# Altium footprint library SOT23-6.PcbLib: 1 footprints
Each footprint in its own frame and in the unit in brackets; x right, y up, seen from the top. Pads: shape width x height; smd on the part's side, far side on the other; paste and mask are expansions set on the pad; w line width, h text height; cw(c..) or ccw(c..) is an arc to the next point about the centre after c.
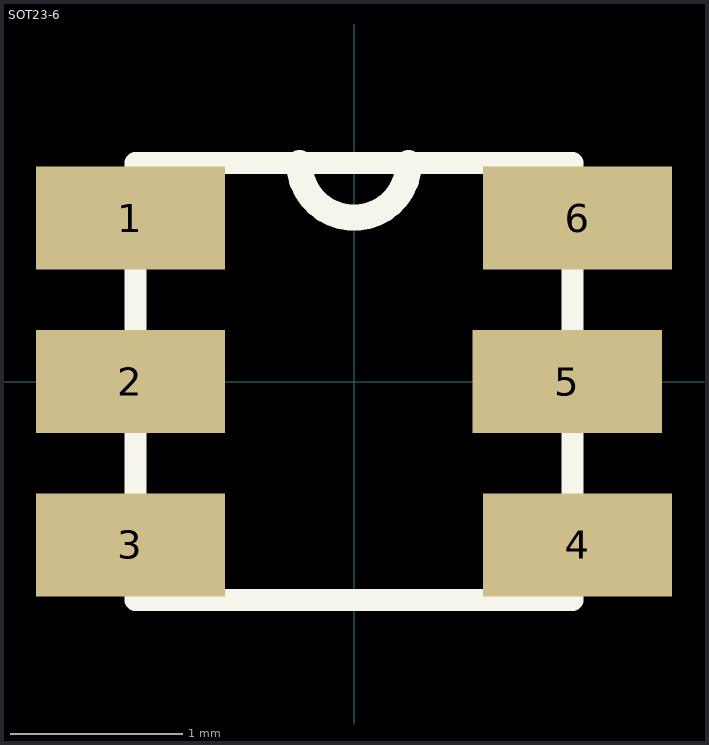
[diagram p0: the footprint, top view; thin cyan lines are the x and y axes]

## SOT23-6 [mm]
pads (6):
  rect 1.1x0.6 smd: 1(-1.3,0.95) 2(-1.3,0) 3(-1.3,-0.95) 4(1.3,-0.95) 5(1.24,0) 6(1.3,0.95)
Top Overlay:
  lines w0.127: -1.27,-1.27 1.27,-1.27 1.27,1.27 0.318,1.27 -0.318,1.27 -1.27,1.27 -1.27,-1.27
  lines w0.152: -0.318,1.27 ccw(c0,1.27) 0.318,1.27